# EAGLE library part 10118194-0001LF (library USB_Micro_B_v2)
Check availability <https://pricing.snapeda.com/parts/10118194-0001LF/Amphenol%20ICC/view-part?ref=eda>
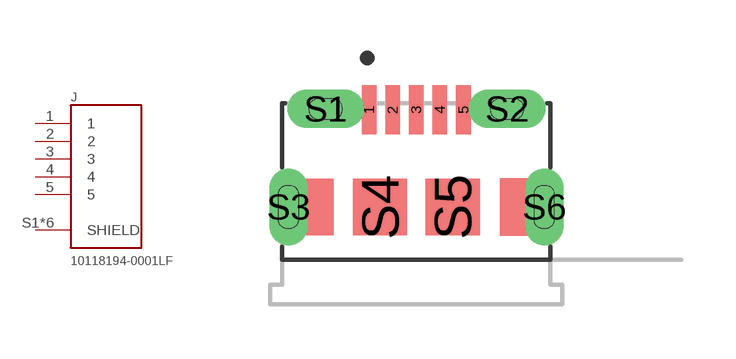
[diagram p0: symbol with the pads of AMPHENOL_10118194-0001LF; footprint AMPHENOL_10118194-0001LF]

Designator prefix J

## 10118194-0001LF (AVAILABILITY: In Stock; CHECK_PRICES: https://www.snapeda.com/parts/10118194-0001LF/Amphenol+FCI/view-part/?ref=eda; DESCRIPTION: Micro USB, Input Output Connectors, B TYPE RECEPTACLE with flange; MF: Amphenol ICC; MP: 10118194-0001LF; PACKAGE: None; PRICE: None; PURCHASE-URL: https://www.snapeda.com/api/url_track_click_mouser/?unipart_id=47625&manufacturer=Amphenol ICC&part_name=10118194-0001LF&search_term=None; SNAPEDA_LINK: https://www.snapeda.com/parts/10118194-0001LF/Amphenol+FCI/view-part/?ref=snap)  [AMPHENOL_10118194-0001LF]
1  1  pas
2  2  pas
3  3  pas
4  4  pas
5  5  pas
S1  SHIELD  pas
S2  SHIELD  pas
S3  SHIELD  pas
S4  SHIELD  pas
S5  SHIELD  pas
S6  SHIELD  pas

## Footprint AMPHENOL_10118194-0001LF (pad centres in mm)
smd 0.4 x 1.35: 1 -1.3,2.675; 2 -0.65,2.675; 3 0,2.675; 4 0.65,2.675; 5 1.3,2.675
drill 0.55 pad 0.61 long: S1 -2.5,2.7; S2 2.5,2.7
drill 0.55 pad 0.75 long: S3 -3.525,0; S6 3.525,0
smd 1.5 x 1.55: S4 -1,0; S5 1,0